# EAGLE library part ESP-ADAPTER (library Co.-ESP)
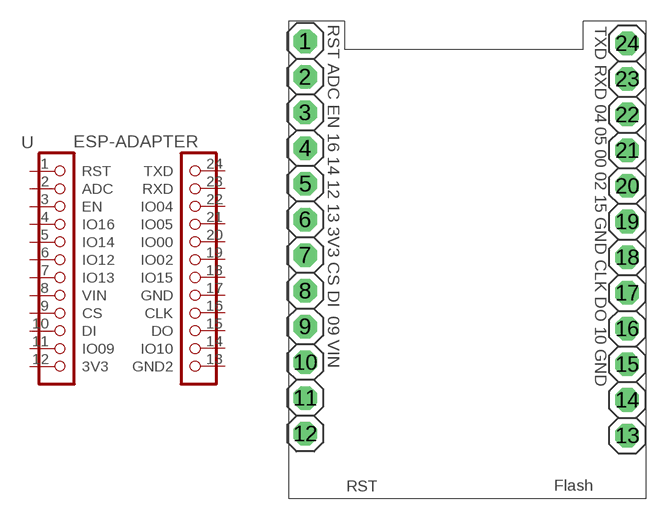
[diagram p22: symbol with the pads of ESP-ADAPTER; footprint ESP-ADAPTER]

Designator prefix -

## ESP-ADAPTER  [ESP-ADAPTER]
1  RST  pas
2  ADC  pas
3  EN  pas
4  IO16  pas
5  IO14  pas
6  IO12  pas
7  IO13  pas
8  VIN  pas
9  CS  pas
10  DI  pas
11  IO09  pas
12  3V3  pas
13  GND2  pas
14  IO10  pas
15  DO  pas
16  CLK  pas
17  GND  pas
18  IO15  pas
19  IO02  pas
20  IO00  pas
21  IO05  pas
22  IO04  pas
23  RXD  pas
24  TXD  pas

## Footprint ESP-ADAPTER (pad centres in mm)
drill 0.9 pad 1.676 octagon: 1 -11.8,15.56; 2 -11.8,13.02; 3 -11.8,10.48; 4 -11.8,7.94; 5 -11.8,5.4; 6 -11.8,2.86; 7 -11.8,0.32; 8 -11.8,-2.22; 9 -11.8,-4.76; 10 -11.8,-7.3; 11 -11.8,-9.84; 12 -11.8,-12.38; 13 11.13,-12.52; 14 11.13,-9.98; 15 11.13,-7.44; 16 11.13,-4.9; 17 11.13,-2.36; 18 11.13,0.18; 19 11.13,2.72; 20 11.13,5.26; 21 11.13,7.8; 22 11.13,10.34; 23 11.13,12.88; 24 11.13,15.42